# Altium footprint library PDB.PcbLib: 5 footprints
Each footprint in its own frame and in the unit in brackets; x right, y up, seen from the top. Pads: shape width x height; smd on the part's side, far side on the other; paste and mask are expansions set on the pad; w line width, h text height; cw(c..) or ccw(c..) is an arc to the next point about the centre after c.
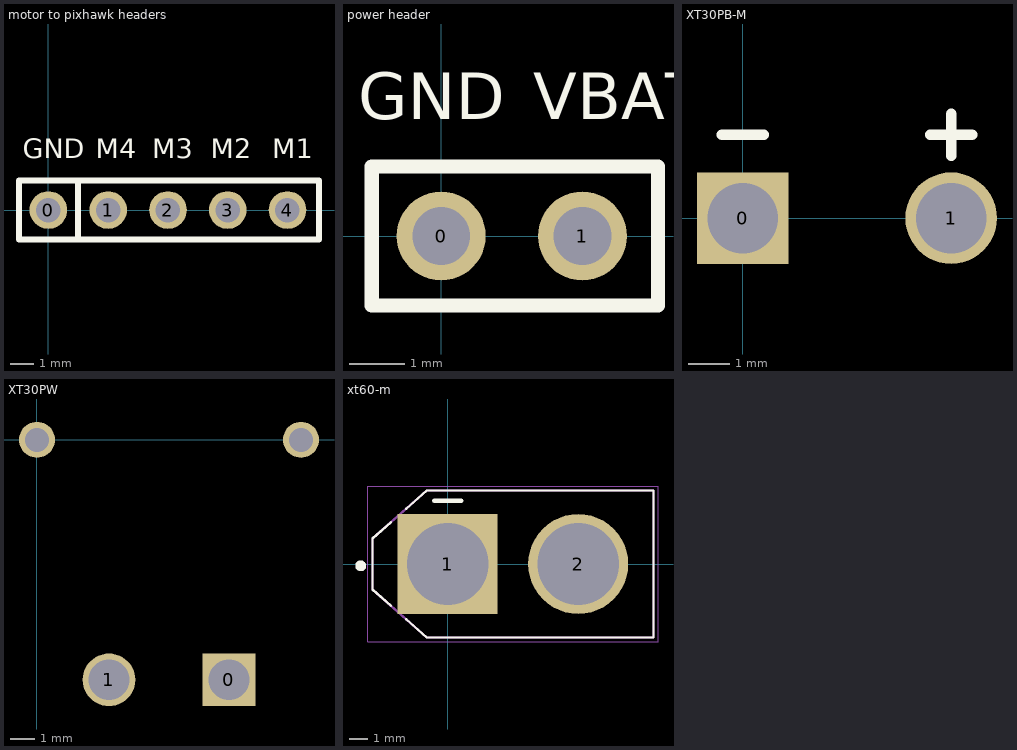
[diagram p0: the footprints below, top view; thin cyan lines are the x and y axes]

## motor to pixhawk headers [mm]
pads (5):
  round 1.6 hole 1.04: 0(0,0) 1(2.54,0) 2(5.08,0) 3(7.62,0) 4(10.16,0)
Top Overlay:
  lines w0.254: 1.25,-1.25 1.25,1.25 ; -1.25,-1.25 -1.25,1.25 11.5,1.25 11.5,-1.25 -1.25,-1.25
  text "M1" at 9.503,2.203 h0.84
  text "GND" at -1.097,2.203 h0.84
  text "M4" at 2.003,2.203 h0.84
  text "M3" at 4.403,2.203 h0.84
  text "M2" at 6.903,2.203 h0.84

## power header [mm]
pads (2):
  round 1.6 hole 1.04: 0(0,0) 1(2.54,0)
Top Overlay:
  lines w0.254: -1.25,-1.25 -1.25,1.25 3.9,1.25 3.9,-1.25 -1.25,-1.25
  text "GND" at -1.497,2.103 h0.84
  text "VBAT" at 1.653,2.103 h0.84

## XT30PB-M [mm]
pads (2):
  rect 2.2x2.2 hole 1.7: 0(0,0)
  round 2.2 hole 1.7: 1(5,0)
Top Overlay:
  lines w0.254: -0.5,2 0.5,2 ; 4.5,2 5.5,2 ; 5,1.5 5,2.5
3D body "User Library-xt30upb-m.STEP": height 9.4, standoff -2, extent -2.578,-2.598 7.622,2.602

## XT30PW [mm]
pads (4):
  rect 2.2x2.2 hole 1.7: 0(8,-10)
  round 2.2 hole 1.7: 1(3,-10)
  round 1.5 hole 1: ""(0,0) ""(11,0)
3D body "User Library-XT30PW-M.SLDPRT": height 5, standoff -2, extent -1.15,-10.942 12.15,3

## xt60-m [mm]
pads (2):
  rect 5.516x5.516 hole 4.5: 1(0,0)
  round 5.516 hole 4.5: 2(7.2,0)
Top Overlay:
  circle w0.3: c-4.8,-0.1 r0.15
  lines w0.127: -3.13,-2.3 -4.15,-1.4 -4.15,1.4 -3.13,2.3 ; -2.28,-3.05 -1.15,-4.05 11.35,-4.05 11.35,4.05 -1.15,4.05 -2.28,3.05
  lines w0.254: -0.75,3.5 0.75,3.5
Bottom Overlay:
  lines w0.254: -0.75,3.5 0.75,3.5
Mechanical 4:
  lines w0.127: -4.15,-1.4 -4.15,1.4 ; -4.15,-1.4 -1.15,-4.05 ; -4.15,-1.4 -4.15,1.4 ; -4.15,-1.4 -1.15,-4.05 ; -4.15,1.4 -1.15,4.05 ; -4.15,1.4 -1.15,4.05 ; -1.15,-4.05 11.35,-4.05 ; -1.15,-4.05 11.35,-4.05 ; -1.15,4.05 11.35,4.05 ; -1.15,4.05 11.35,4.05 ; 11.35,-4.05 11.35,4.05 ; 11.35,-4.05 11.35,4.05
Mechanical 16:
  lines w0.05: -4.4,-4.3 -4.4,4.3 11.6,4.3 11.6,-4.3 -4.4,-4.3
3D body "PDB XT60 PLUG.SLDPRT": height 16.2, standoff -1.79, extent -4.378,-4.05 11.622,3.951